# EAGLE library part SHIFT-REGISTER-TPIC6C596 (library FlashPCB_ICs)
TPIC6C596 - IC PWR 8-BIT SHIFT REGIS 16-SOIC Technical Specifications: Shift Shift Register 1 Element 8 Bit 16-SOIC Logic Type: Shift Register Function: Serial to Parallel, Serial 1 Element, 8-Bit Supply Voltage: 4.5V~5.5V Output Clamp Voltage: 33V ESD Protection: 2500V Component Search: TPIC6C596 <https://www.flashpcb.com/components> Datasheet: TPIC6C596 Power Logic 8-Bit Shift Register datasheet (Rev. D) <https://www.ti.com/lit/ds/symlink/tpic6c596.pdf?HQS=dis-dk-null-digikeymode-dsf-pf-null-wwe&ts=1685596443800>
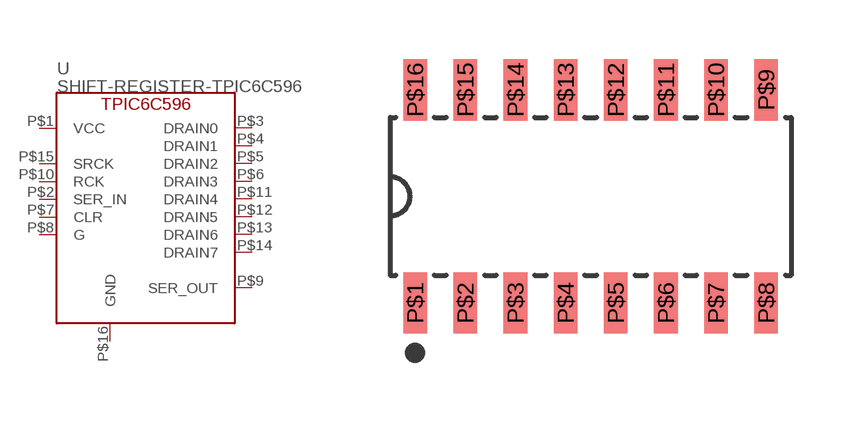
[diagram p79: symbol with the pads of SOIC-16-150MIL-3.9MM; footprint SOIC-16-150MIL-3.9MM]

Designator prefix U

## SHIFT-REGISTER-TPIC6C596D  [SOIC-16-150MIL-3.9MM]
P$1  VCC
P$2  SER_IN
P$3  DRAIN0
P$4  DRAIN1
P$5  DRAIN2
P$6  DRAIN3
P$7  CLR
P$8  G
P$9  SER_OUT
P$10  RCK
P$11  DRAIN4
P$12  DRAIN5
P$13  DRAIN6
P$14  DRAIN7
P$15  SRCK
P$16  GND

## Footprint SOIC-16-150MIL-3.9MM (pad centres in mm)
smd 0.6 x 1.55: P$1 -4.445,-2.7; P$2 -3.175,-2.7; P$3 -1.905,-2.7; P$4 -0.635,-2.7; P$5 0.635,-2.7; P$6 1.905,-2.7; P$7 3.175,-2.7; P$8 4.445,-2.7; P$9 4.445,2.7; P$10 3.175,2.7; P$11 1.905,2.7; P$12 0.635,2.7; P$13 -0.635,2.7; P$14 -1.905,2.7; P$15 -3.175,2.7; P$16 -4.445,2.7